# EAGLE library part AD9910BSVZ (library AD9910BSVZ)
TQFP-100,Direct Digital Synthesizer Check prices <https://pricing.snapeda.com/parts/AD9910BSVZ/Analog%20Devices/view-part?ref=eda>
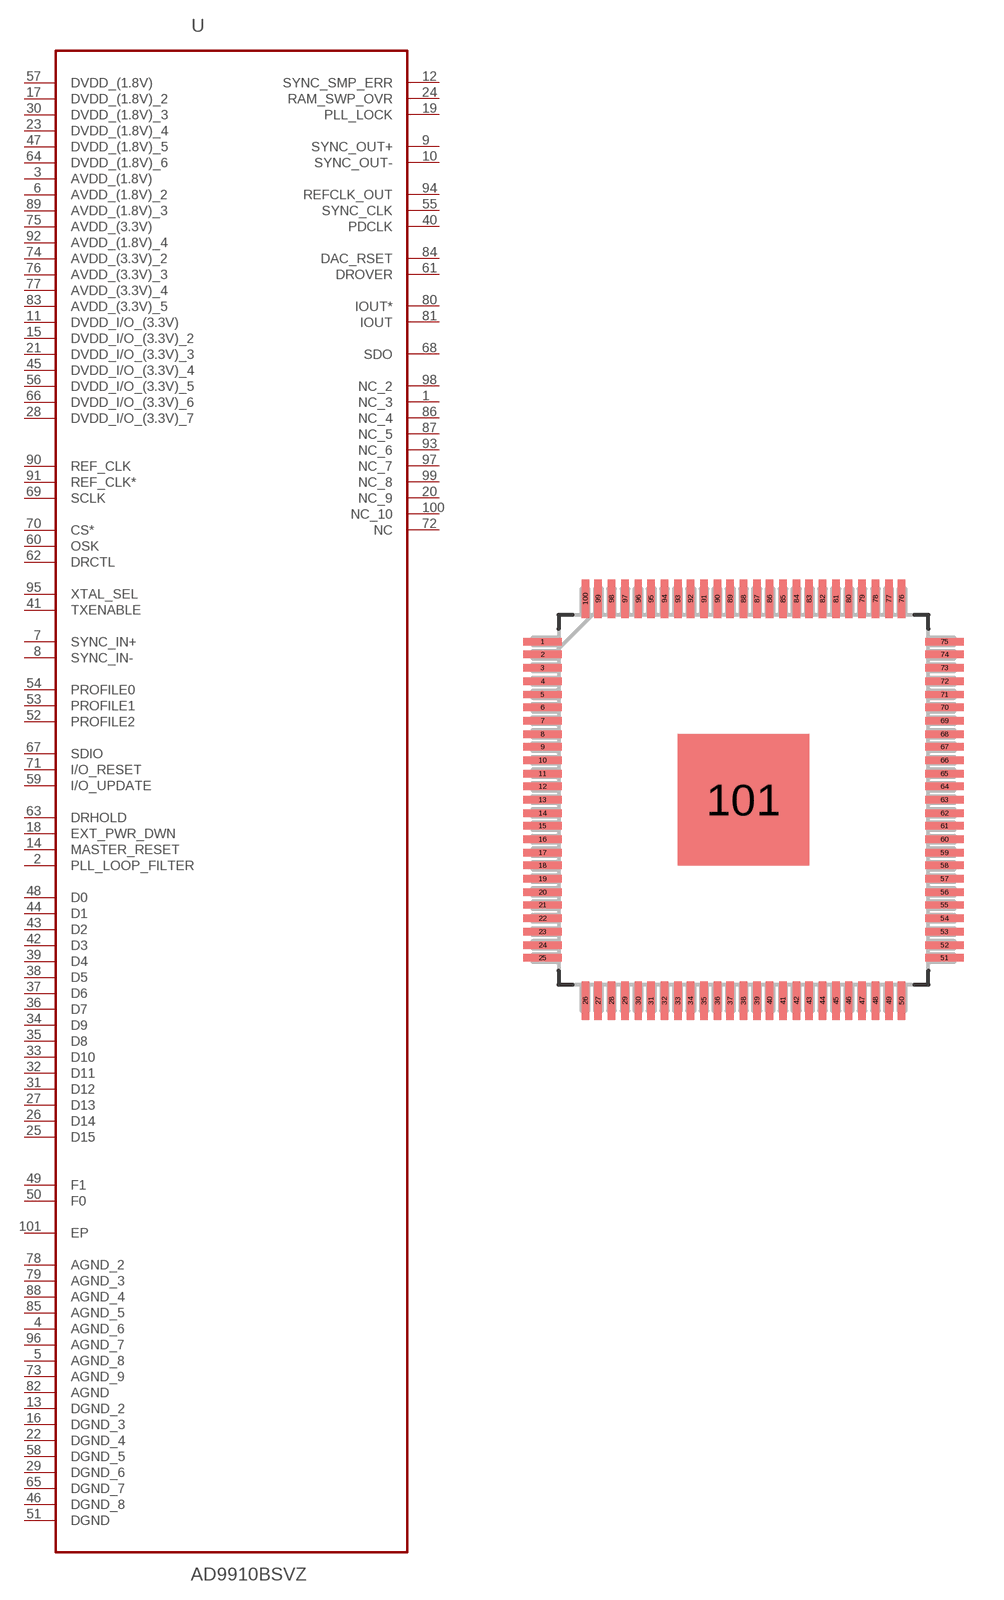
[diagram p0: symbol with the pads of QFP50P1600X1600X120-101N; footprint QFP50P1600X1600X120-101N]

Designator prefix U

## AD9910BSVZ (Availability: In Stock; Description: Direct Digital Synthesis IC 14 b 1GHz 32 b Tuning 100-TQFP-EP (14x14); MF: Analog Devices; MP: AD9910BSVZ; Package: TQFP -100 Analog Devices; Price: None)  [QFP50P1600X1600X120-101N]
1  NC_3  nc
2  PLL_LOOP_FILTER  in
3  AVDD_(1.8V)  pwr
4  AGND_6  pas
5  AGND_8  pas
6  AVDD_(1.8V)_2  pwr
7  SYNC_IN+  in
8  SYNC_IN-  in
9  SYNC_OUT+  out
10  SYNC_OUT-  out
11  DVDD_I/O_(3.3V)  pwr
12  SYNC_SMP_ERR  out
13  DGND_2  pas
14  MASTER_RESET  in
15  DVDD_I/O_(3.3V)_2  pwr
16  DGND_3  pas
17  DVDD_(1.8V)_2  pwr
18  EXT_PWR_DWN  in
19  PLL_LOCK  out
20  NC_9  nc
21  DVDD_I/O_(3.3V)_3  pwr
22  DGND_4  pas
23  DVDD_(1.8V)_4  pwr
24  RAM_SWP_OVR  out
25  D15  in
26  D14  in
27  D13  in
28  DVDD_I/O_(3.3V)_7  pwr
29  DGND_6  pas
30  DVDD_(1.8V)_3  pwr
31  D12  in
32  D11  in
33  D10  in
34  D9  in
35  D8  in
36  D7  in
37  D6  in
38  D5  in
39  D4  in
40  PDCLK  out
41  TXENABLE  in
42  D3  in
43  D2  in
44  D1  in
45  DVDD_I/O_(3.3V)_4  pwr
46  DGND_8  pas
47  DVDD_(1.8V)_5  pwr
48  D0  in
49  F1  in
50  F0  in
51  DGND  pas
52  PROFILE2  in
53  PROFILE1  in
54  PROFILE0  in
55  SYNC_CLK  out
56  DVDD_I/O_(3.3V)_5  pwr
57  DVDD_(1.8V)  pwr
58  DGND_5  pas
59  I/O_UPDATE
60  OSK  in
61  DROVER  out
62  DRCTL  in
63  DRHOLD  in
64  DVDD_(1.8V)_6  pwr
65  DGND_7  pas
66  DVDD_I/O_(3.3V)_6  pwr
67  SDIO
68  SDO  out
69  SCLK  in
70  CS*  in
71  I/O_RESET  in
72  NC  nc
73  AGND_9  pas
74  AVDD_(3.3V)_2  pwr
75  AVDD_(3.3V)  pwr
76  AVDD_(3.3V)_3  pwr
77  AVDD_(3.3V)_4  pwr
78  AGND_2  pas
79  AGND_3  pas
80  IOUT*  out
81  IOUT  out
82  AGND  pas
83  AVDD_(3.3V)_5  pwr
84  DAC_RSET  out
85  AGND_5  pas
86  NC_4  nc
87  NC_5  nc
88  AGND_4  pas
89  AVDD_(1.8V)_3  pwr
90  REF_CLK  in
91  REF_CLK*  in
92  AVDD_(1.8V)_4  pwr
93  NC_6  nc
94  REFCLK_OUT  out
95  XTAL_SEL  in
96  AGND_7  pas
97  NC_7  nc
98  NC_2  nc
99  NC_8  nc
100  NC_10  nc
101  EP  pas

## Footprint QFP50P1600X1600X120-101N (pad centres in mm)
smd 1.473 x 0.279: 1 -7.62,5.994; 2 -7.62,5.512; 3 -7.62,5.004; 4 -7.62,4.496; 5 -7.62,3.988; 6 -7.62,3.505; 7 -7.62,2.997; 8 -7.62,2.489; 9 -7.62,2.007; 10 -7.62,1.499; 11 -7.62,0.991; 12 -7.62,0.508; 13 -7.62,0; 14 -7.62,-0.508; 15 -7.62,-0.991; 16 -7.62,-1.499; 17 -7.62,-2.007; 18 -7.62,-2.489; 19 -7.62,-2.997; 20 -7.62,-3.505; 21 -7.62,-3.988; 22 -7.62,-4.496; 23 -7.62,-5.004; 24 -7.62,-5.512; 25 -7.62,-5.994; 51 7.62,-5.994; 52 7.62,-5.512; 53 7.62,-5.004; 54 7.62,-4.496; 55 7.62,-3.988; 56 7.62,-3.505; 57 7.62,-2.997; 58 7.62,-2.489; 59 7.62,-2.007; 60 7.62,-1.499; 61 7.62,-0.991; 62 7.62,-0.508; 63 7.62,0; 64 7.62,0.508; 65 7.62,0.991; 66 7.62,1.499; 67 7.62,2.007; 68 7.62,2.489; 69 7.62,2.997; 70 7.62,3.505; 71 7.62,3.988; 72 7.62,4.496; 73 7.62,5.004; 74 7.62,5.512; 75 7.62,5.994
smd 0.279 x 1.473: 26 -5.994,-7.62; 27 -5.512,-7.62; 28 -5.004,-7.62; 29 -4.496,-7.62; 30 -3.988,-7.62; 31 -3.505,-7.62; 32 -2.997,-7.62; 33 -2.489,-7.62; 34 -2.007,-7.62; 35 -1.499,-7.62; 36 -0.991,-7.62; 37 -0.508,-7.62; 38 0,-7.62; 39 0.508,-7.62; 40 0.991,-7.62; 41 1.499,-7.62; 42 2.007,-7.62; 43 2.489,-7.62; 44 2.997,-7.62; 45 3.505,-7.62; 46 3.988,-7.62; 47 4.496,-7.62; 48 5.004,-7.62; 49 5.512,-7.62; 50 5.994,-7.62; 76 5.994,7.62; 77 5.512,7.62; 78 5.004,7.62; 79 4.496,7.62; 80 3.988,7.62; 81 3.505,7.62; 82 2.997,7.62; 83 2.489,7.62; 84 2.007,7.62; 85 1.499,7.62; 86 0.991,7.62; 87 0.508,7.62; 88 0,7.62; 89 -0.508,7.62; 90 -0.991,7.62; 91 -1.499,7.62; 92 -2.007,7.62; 93 -2.489,7.62; 94 -2.997,7.62; 95 -3.505,7.62; 96 -3.988,7.62; 97 -4.496,7.62; 98 -5.004,7.62; 99 -5.512,7.62; 100 -5.994,7.62
smd 5.004 x 5.004: 101 0,0